# Altium schematic symbol library MAX86141ENP+.SchLib: 1 symbol
Pins are listed as number, name and electrical type; pins without a type are passive.

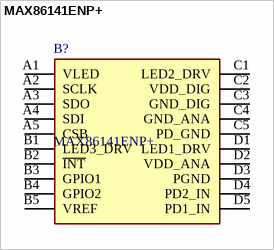
[diagram p0: symbol MAX86141ENP+]

## MAX86141ENP+
designator B?
MAXIM INTEGRATED PRODUCTS - MAX86141ENP+ - PULSE OXIMETER/HEART RATE SENSOR, WLP-20; Manufacturer_Name: Analog Devices; Geometry.Height: 0.5mm; Manufacturer_Part_Number: MAX86141ENP+; Mouser Part Number: 700-MAX86141ENP+; Mouser Price/Stock: https://www.mouser.co.uk/ProductDetail/Analog-Devices-Maxim-Integrated/MAX86141ENP%2b?qs=YCa%2FAAYMW01jqVI3kzZSjA%3D%3D; Arrow Part Number: *; Arrow Price/Stock: *; Datasheet Link: https://datasheets.maximintegrated.com/en/ds/MAX86140-MAX86141.pdf
footprint BGA20C40P5X4_205X185X50
pins: A1 VLED, A2 SCLK, A3 SDO, A4 SDI, A5 CSB, B1 LED3_DRV, B2 ~{INT}, B3 GPIO1, B4 GPIO2, B5 VREF, C1 LED2_DRV, C2 VDD_DIG, C3 GND_DIG, C4 GND_ANA, C5 PD_GND, D1 LED1_DRV, D2 VDD_ANA, D3 PGND, D4 PD2_IN, D5 PD1_IN